# Altium footprint library WE-VD.PcbLib: 60 footprints (part 2 of 4)
Each footprint in its own frame and in the unit in brackets; x right, y up, seen from the top. Pads: shape width x height; smd on the part's side, far side on the other; paste and mask are expansions set on the pad; w line width, h text height; cw(c..) or ccw(c..) is an arc to the next point about the centre after c.
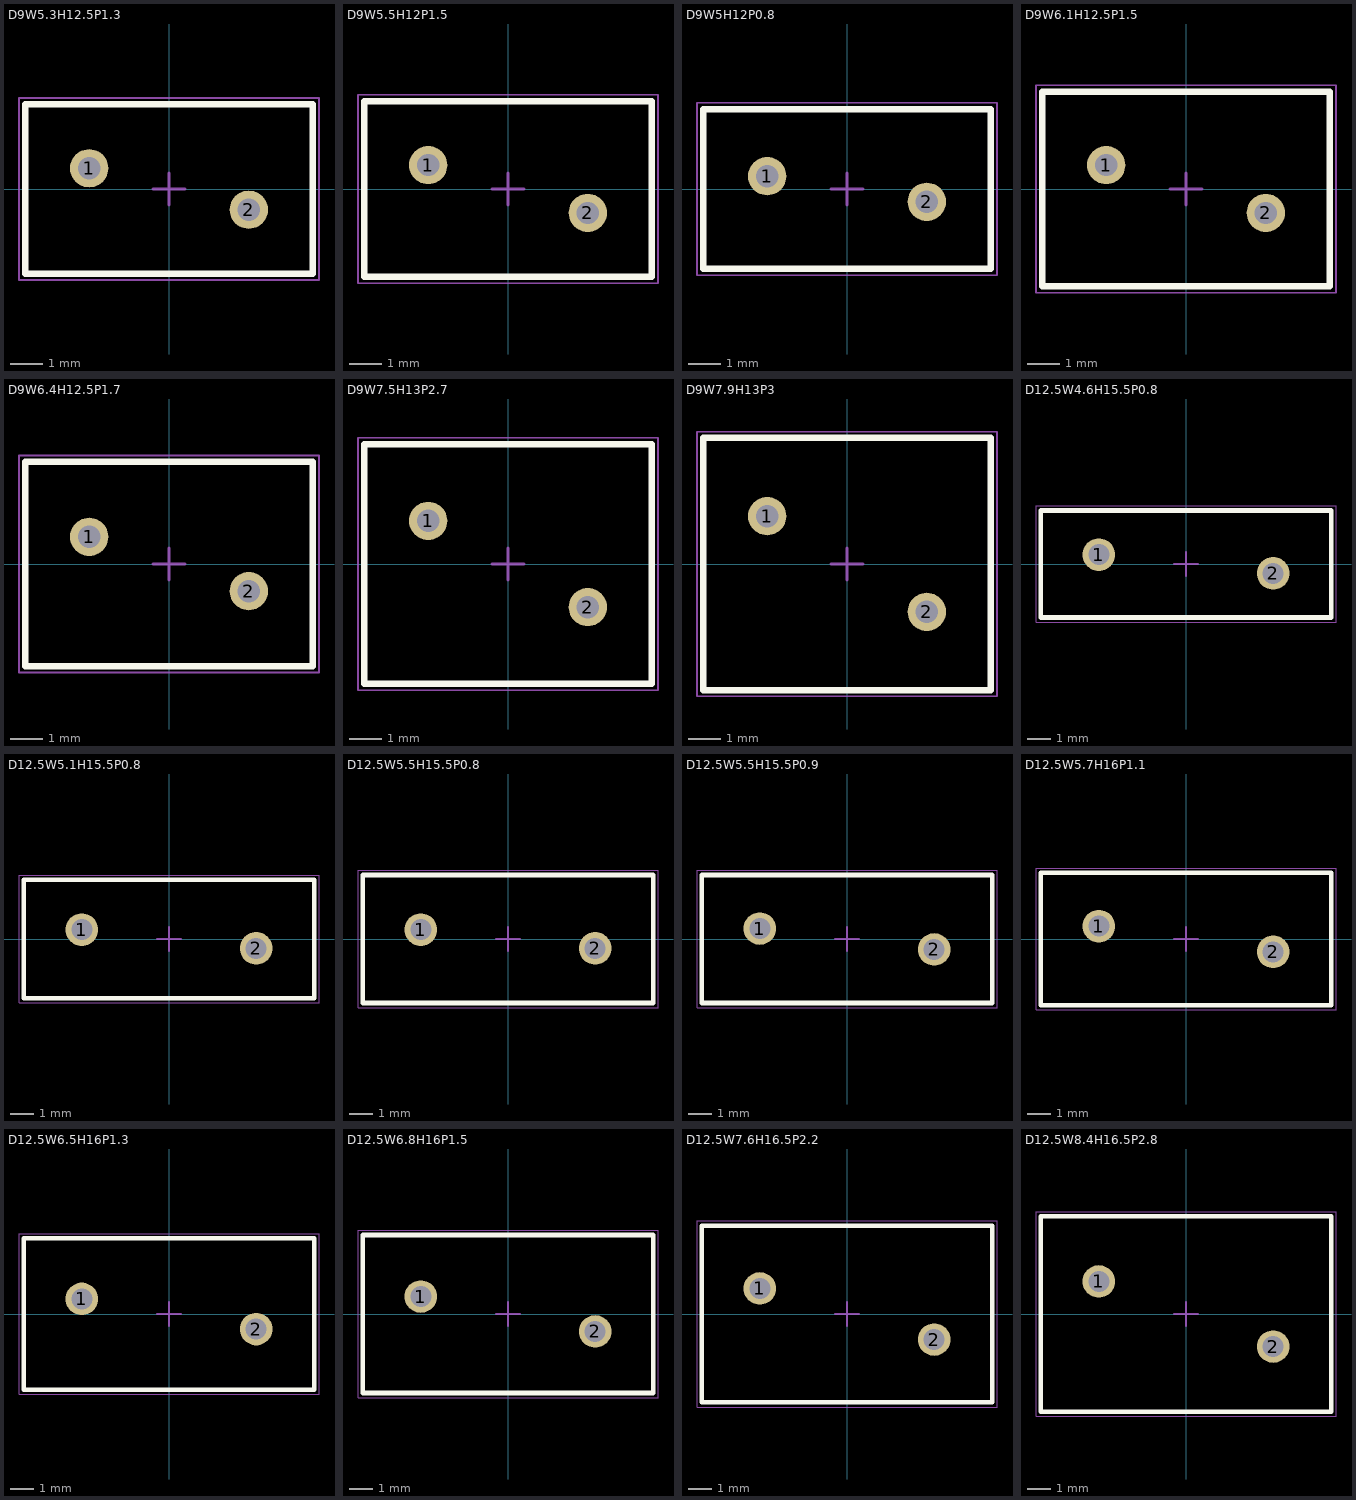
[diagram p1: the footprints below, top view; thin cyan lines are the x and y axes]

## D9W5.3H12.5P1.3 [mm] "Disk Varistor, Diameter 9mm, Width 5.3mm"
height 12.5
pads (2):
  round 1.2 hole 0.7: 1(-2.5,0.65) 2(2.5,-0.65)
Top Overlay:
  lines w0.2: -4.5,-2.65 4.5,-2.65 4.5,2.65 -4.5,2.65 -4.5,-2.65
Top Assembly:
  lines w0.1: -4.5,-2.65 -4.5,2.65 4.5,2.65 4.5,-2.65 -4.5,-2.65
Top Designator:
  text ".Designator" at -3.647,-0.357 h1
Top Courtyard:
  lines w0.05: -4.7,-2.85 4.7,-2.85 4.7,2.85 -4.7,2.85 -4.7,-2.85
Top Component Center:
  lines w0.1: -0.5,0 0.5,0 ; 0,-0.5 0,0.5
3D body "820x72511.stp": height 9.7, standoff -22.7, extent -3.696,-1.85 3.696,1.85

## D9W5.5H12P1.5 [mm] "Disk Varistor, Diameter 9mm, Width 5.5mm"
height 12
pads (2):
  round 1.2 hole 0.7: 1(-2.5,0.75) 2(2.5,-0.75)
Top Overlay:
  lines w0.2: -4.5,-2.75 4.5,-2.75 4.5,2.75 -4.5,2.75 -4.5,-2.75
Top Assembly:
  lines w0.1: -4.5,-2.75 -4.5,2.75 4.5,2.75 4.5,-2.75 -4.5,-2.75
Top Designator:
  text ".Designator" at -3.647,-0.357 h1
Top Courtyard:
  lines w0.05: -4.7,-2.95 4.7,-2.95 4.7,2.95 -4.7,2.95 -4.7,-2.95
Top Component Center:
  lines w0.1: -0.5,0 0.5,0 ; 0,-0.5 0,0.5
3D body "820x74001.stp": height 9.7, standoff -22.7, extent -3.696,-1.9 3.696,1.9

## D9W5H12P0.8 [mm] "Disk Varistor, Diameter 9mm, Width 5mm"
height 12
pads (2):
  round 1.2 hole 0.7: 1(-2.5,0.4) 2(2.5,-0.4)
Top Overlay:
  lines w0.2: -4.5,-2.5 4.5,-2.5 4.5,2.5 -4.5,2.5 -4.5,-2.5
Top Assembly:
  lines w0.1: -4.5,-2.5 -4.5,2.5 4.5,2.5 4.5,-2.5 -4.5,-2.5
Top Designator:
  text ".Designator" at -3.647,-0.357 h1
Top Courtyard:
  lines w0.05: -4.7,-2.7 4.7,-2.7 4.7,2.7 -4.7,2.7 -4.7,-2.7
Top Component Center:
  lines w0.1: -0.5,0 0.5,0 ; 0,-0.5 0,0.5
3D body "820x73001.stp": height 9.7, standoff -22.7, extent -3.696,-1.6 3.696,1.6

## D9W6.1H12.5P1.5 [mm] "Disk Varistor, Diameter 9mm, Width 6.1mm"
height 12.5
pads (2):
  round 1.2 hole 0.7: 1(-2.5,0.75) 2(2.5,-0.75)
Top Overlay:
  lines w0.2: -4.5,-3.05 4.5,-3.05 4.5,3.05 -4.5,3.05 -4.5,-3.05
Top Assembly:
  lines w0.1: -4.5,-3.05 -4.5,3.05 4.5,3.05 4.5,-3.05 -4.5,-3.05
Top Designator:
  text ".Designator" at -3.647,-0.357 h1
Top Courtyard:
  lines w0.05: -4.7,-3.25 4.7,-3.25 4.7,3.25 -4.7,3.25 -4.7,-3.25
Top Component Center:
  lines w0.1: -0.5,0 0.5,0 ; 0,-0.5 0,0.5
3D body "820x72711.stp": height 9.7, standoff -22.7, extent -3.696,-1.95 3.696,1.95

## D9W6.4H12.5P1.7 [mm] "Disk Varistor, Diameter 9mm, Width 6.4mm"
height 12.5
pads (2):
  round 1.2 hole 0.7: 1(-2.5,0.85) 2(2.5,-0.85)
Top Overlay:
  lines w0.2: -4.5,-3.2 -4.5,3.2 4.5,3.2 4.5,-3.2 -4.5,-3.2
Top Assembly:
  lines w0.1: -4.5,-3.2 4.5,-3.2 4.5,3.2 -4.5,3.2 -4.5,-3.2
Top Designator:
  text ".Designator" at -3.647,-0.357 h1
Top Courtyard:
  lines w0.05: -4.7,-3.4 -4.7,3.4 4.7,3.4 4.7,-3.4 -4.7,-3.4
Top Component Center:
  lines w0.1: -0.5,0 0.5,0 ; 0,-0.5 0,0.5
3D body "820x73011.stp": height 9.7, standoff -22.7, extent -3.696,-2.05 3.696,2.05

## D9W7.5H13P2.7 [mm] "Disk Varistor, Diameter 9mm, Width 7.5mm"
height 13
pads (2):
  round 1.2 hole 0.7: 1(-2.5,1.35) 2(2.5,-1.35)
Top Overlay:
  lines w0.2: -4.5,-3.75 4.5,-3.75 4.5,3.75 -4.5,3.75 -4.5,-3.75
Top Assembly:
  lines w0.1: -4.5,-3.75 -4.5,3.75 4.5,3.75 4.5,-3.75 -4.5,-3.75
Top Designator:
  text ".Designator" at -3.647,-0.357 h1
Top Courtyard:
  lines w0.05: -4.7,-3.95 4.7,-3.95 4.7,3.95 -4.7,3.95 -4.7,-3.95
Top Component Center:
  lines w0.1: -0.5,0 0.5,0 ; 0,-0.5 0,0.5
3D body "820x74211.stp": height 9.85, standoff -22.55, extent -3.696,-2.55 3.696,2.55

## D9W7.9H13P3 [mm] "Disk Varistor, Diameter 9mm, Width 7.9mm"
height 13
pads (2):
  round 1.2 hole 0.7: 1(-2.5,1.5) 2(2.5,-1.5)
Top Overlay:
  lines w0.2: -4.5,-3.95 4.5,-3.95 4.5,3.95 -4.5,3.95 -4.5,-3.95
Top Assembly:
  lines w0.1: -4.5,-3.95 -4.5,3.95 4.5,3.95 4.5,-3.95 -4.5,-3.95
Top Designator:
  text ".Designator" at -3.647,-0.357 h1
Top Courtyard:
  lines w0.05: -4.7,-4.15 4.7,-4.15 4.7,4.15 -4.7,4.15 -4.7,-4.15
Top Component Center:
  lines w0.1: -0.5,0 0.5,0 ; 0,-0.5 0,0.5
3D body "820x74611.stp": height 9.85, standoff -22.55, extent -3.696,-2.75 3.696,2.75

## D12.5W4.6H15.5P0.8 [mm] "Disk Varistor, Diameter 12.5mm, Width 4.6mm"
height 15.5
pads (2):
  round 1.4 hole 0.9: 1(-3.75,0.4) 2(3.75,-0.4)
Top Overlay:
  lines w0.2: -6.25,-2.3 -6.25,2.3 6.25,2.3 6.25,-2.3 -6.25,-2.3
Top Assembly:
  lines w0.1: -6.25,-2.3 6.25,-2.3 6.25,2.3 -6.25,2.3 -6.25,-2.3
Top Designator:
  text ".Designator" at -3.647,-0.357 h1
Top Courtyard:
  lines w0.05: -6.45,-2.5 -6.45,2.5 6.45,2.5 6.45,-2.5 -6.45,-2.5
Top Component Center:
  lines w0.1: -0.5,0 0.5,0 ; 0,-0.5 0,0.5
3D body "820x11311.stp": height 13.4, standoff -22.6, extent -5.5,-1.676 5.5,1.675

## D12.5W5.1H15.5P0.8 [mm] "Disk Varistor, Diameter 12.5mm, Width 5.1mm"
height 15.5
pads (2):
  round 1.4 hole 0.9: 1(-3.75,0.4) 2(3.75,-0.4)
Top Overlay:
  lines w0.2: -6.25,-2.55 -6.25,2.55 6.25,2.55 6.25,-2.55 -6.25,-2.55
Top Assembly:
  lines w0.1: -6.25,-2.55 6.25,-2.55 6.25,2.55 -6.25,2.55 -6.25,-2.55
Top Designator:
  text ".Designator" at -3.647,-0.357 h1
Top Courtyard:
  lines w0.05: -6.45,-2.75 -6.45,2.75 6.45,2.75 6.45,-2.75 -6.45,-2.75
Top Component Center:
  lines w0.1: -0.5,0 0.5,0 ; 0,-0.5 0,0.5
3D body "820x12001.stp": height 13.3, standoff -22.7, extent -5.5,-1.875 5.5,1.875

## D12.5W5.5H15.5P0.8 [mm] "Disk Varistor, Diameter 12.5mm, Width 5.5mm"
height 15.5
pads (2):
  round 1.4 hole 0.9: 1(-3.75,0.4) 2(3.75,-0.4)
Top Overlay:
  lines w0.2: -6.25,-2.75 -6.25,2.75 6.25,2.75 6.25,-2.75 -6.25,-2.75
Top Assembly:
  lines w0.1: -6.25,-2.75 6.25,-2.75 6.25,2.75 -6.25,2.75 -6.25,-2.75
Top Designator:
  text ".Designator" at -3.647,-0.357 h1
Top Courtyard:
  lines w0.05: -6.45,-2.95 -6.45,2.95 6.45,2.95 6.45,-2.95 -6.45,-2.95
Top Component Center:
  lines w0.1: -0.5,0 0.5,0 ; 0,-0.5 0,0.5
3D body "820x13001.stp": height 13.4, standoff -22.6, extent -5.5,-1.926 5.5,1.925

## D12.5W5.5H15.5P0.9 [mm] "Disk Varistor, Diameter 12.5mm, Width 5.5mm"
height 15.5
pads (2):
  round 1.4 hole 0.9: 1(-3.75,0.45) 2(3.75,-0.45)
Top Overlay:
  lines w0.2: -6.25,-2.75 6.25,-2.75 6.25,2.75 -6.25,2.75 -6.25,-2.75
Top Assembly:
  lines w0.1: -6.25,-2.75 -6.25,2.75 6.25,2.75 6.25,-2.75 -6.25,-2.75
Top Designator:
  text ".Designator" at -3.647,-0.357 h1
Top Courtyard:
  lines w0.05: -6.45,-2.95 6.45,-2.95 6.45,2.95 -6.45,2.95 -6.45,-2.95
Top Component Center:
  lines w0.1: -0.5,0 0.5,0 ; 0,-0.5 0,0.5
3D body "820x12311.stp": height 13.4, standoff -22.6, extent -5.5,-2.001 5.5,2

## D12.5W5.7H16P1.1 [mm] "Disk Varistor, Diameter 12.5mm, Width 5.7mm"
height 16
pads (2):
  round 1.4 hole 0.9: 1(-3.75,0.55) 2(3.75,-0.55)
Top Overlay:
  lines w0.2: -6.25,-2.85 6.25,-2.85 6.25,2.85 -6.25,2.85 -6.25,-2.85
Top Assembly:
  lines w0.1: -6.25,-2.85 -6.25,2.85 6.25,2.85 6.25,-2.85 -6.25,-2.85
Top Designator:
  text ".Designator" at -3.647,-0.357 h1
Top Courtyard:
  lines w0.05: -6.45,-3.05 6.45,-3.05 6.45,3.05 -6.45,3.05 -6.45,-3.05
Top Component Center:
  lines w0.1: -0.5,0 0.5,0 ; 0,-0.5 0,0.5
3D body "820x12511.stp": height 13.4, standoff -22.6, extent -5.5,-2.101 5.5,2.1

## D12.5W6.5H16P1.3 [mm] "Disk Varistor, Diameter 12.5mm, Width 6.5mm"
height 16
pads (2):
  round 1.4 hole 0.9: 1(-3.75,0.65) 2(3.75,-0.65)
Top Overlay:
  lines w0.2: -6.25,-3.25 6.25,-3.25 6.25,3.25 -6.25,3.25 -6.25,-3.25
Top Assembly:
  lines w0.1: -6.25,-3.25 -6.25,3.25 6.25,3.25 6.25,-3.25 -6.25,-3.25
Top Designator:
  text ".Designator" at -3.647,-0.357 h1
Top Courtyard:
  lines w0.05: -6.45,-3.45 6.45,-3.45 6.45,3.45 -6.45,3.45 -6.45,-3.45
Top Component Center:
  lines w0.1: -0.5,0 0.5,0 ; 0,-0.5 0,0.5
3D body "820x12711.stp": height 13.4, standoff -22.6, extent -5.5,-2.201 5.5,2.2

## D12.5W6.8H16P1.5 [mm] "Disk Varistor, Diameter 12.5mm, Width 6.8mm"
height 16
pads (2):
  round 1.4 hole 0.9: 1(-3.75,0.75) 2(3.75,-0.75)
Top Overlay:
  lines w0.2: -6.25,-3.4 -6.25,3.4 6.25,3.4 6.25,-3.4 -6.25,-3.4
Top Assembly:
  lines w0.1: -6.25,-3.4 6.25,-3.4 6.25,3.4 -6.25,3.4 -6.25,-3.4
Top Designator:
  text ".Designator" at -3.647,-0.357 h1
Top Courtyard:
  lines w0.05: -6.45,-3.6 -6.45,3.6 6.45,3.6 6.45,-3.6 -6.45,-3.6
Top Component Center:
  lines w0.1: -0.5,0 0.5,0 ; 0,-0.5 0,0.5
3D body "820x13011.stp": height 13.4, standoff -22.6, extent -5.5,-2.301 5.5,2.3

## D12.5W7.6H16.5P2.2 [mm] "Disk Varistor, Diameter 12.5mm, Width 7.6mm"
height 16.5
pads (2):
  round 1.4 hole 0.9: 1(-3.75,1.1) 2(3.75,-1.1)
Top Overlay:
  lines w0.2: -6.25,-3.8 6.25,-3.8 6.25,3.8 -6.25,3.8 -6.25,-3.8
Top Assembly:
  lines w0.1: -6.25,-3.8 -6.25,3.8 6.25,3.8 6.25,-3.8 -6.25,-3.8
Top Designator:
  text ".Designator" at -3.647,-0.357 h1
Top Courtyard:
  lines w0.05: -6.45,-4 6.45,-4 6.45,4 -6.45,4 -6.45,-4
Top Component Center:
  lines w0.1: -0.5,0 0.5,0 ; 0,-0.5 0,0.5
3D body "820x13811.stp": height 13.4, standoff -22.6, extent -5.5,-2.601 5.5,2.6

## D12.5W8.4H16.5P2.8 [mm] "Disk Varistor, Diameter 12.5mm, Width 8.4mm"
height 16.5
pads (2):
  round 1.4 hole 0.9: 1(-3.75,1.4) 2(3.75,-1.4)
Top Overlay:
  lines w0.2: -6.25,-4.2 6.25,-4.2 6.25,4.2 -6.25,4.2 -6.25,-4.2
Top Assembly:
  lines w0.1: -6.25,-4.2 -6.25,4.2 6.25,4.2 6.25,-4.2 -6.25,-4.2
Top Designator:
  text ".Designator" at -3.647,-0.357 h1
Top Courtyard:
  lines w0.05: -6.45,-4.4 6.45,-4.4 6.45,4.4 -6.45,4.4 -6.45,-4.4
Top Component Center:
  lines w0.1: -0.5,0 0.5,0 ; 0,-0.5 0,0.5
3D body "820x14611.stp": height 13.4, standoff -22.6, extent -5.5,-2.951 5.5,2.95